# EAGLE library part 3641AS (library 7-seg-disp)
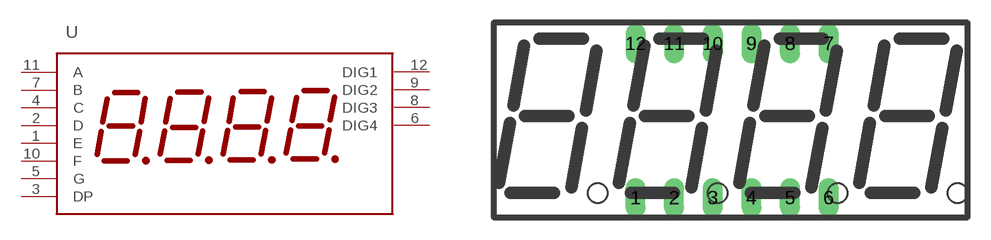
[diagram p2: symbol with the pads of 4DIG_7SEG_036; footprint 4DIG_7SEG_036]

Designator prefix -

## 3641AS  [4DIG_7SEG_036]
1  E
2  D
3  DP
4  C
5  G
6  DIG4
7  B
8  DIG3
9  DIG2
10  F
11  A
12  DIG1

## Footprint 4DIG_7SEG_036 (pad centres in mm)
drill 0.8 long: 1 -6.08,-5.08; 2 -3.54,-5.08; 3 -1,-5.08; 4 1.54,-5.08; 5 4.08,-5.08; 6 6.62,-5.08; 7 6.62,5.08; 8 4.08,5.08; 9 1.54,5.08; 10 -1,5.08; 11 -3.54,5.08; 12 -6.08,5.08